# Altium integrated library C0603C104K5RACTU.IntLib: 1 symbol
Pins are listed as number, name and electrical type; pins without a type are passive.

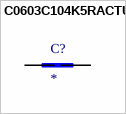
[diagram p0: symbol C0603C104K5RACTU]

## C0603C104K5RACTU
designator C?
0.1ÂµF Â±10% 50V Ceramic Capacitor X7R 0603 (1608 Metric); MP: C0603C104K5RACTU; MF: KEMET; SnapEDA_Link: https://www.snapeda.com/parts/C0603C104K5RACTU/KEMET/view-part/52584/?ref=snap; Check_prices: https://www.snapeda.com/parts/C0603C104K5RACTU/KEMET/view-part/52584/?ref=eda; Digi-Key_Part_Number: 399-5089-1-ND; Value: *; Package: 0603 Kemet; Purchase-URL: https://pricing.snapeda.com/search/part/C0603C104K5RACTU/?ref=eda
footprint CAPC1608X90
pins: 1, 2